# Altium schematic symbol library modules.schlib: 2 symbols
Pins are listed as number, name and electrical type; pins without a type are passive.

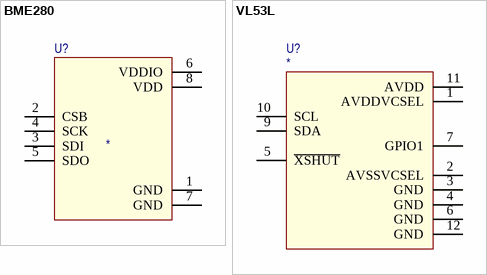
[diagram p0: symbols BME280 to VL53L]

## BME280
designator U?
DIGITAL HUMIDITY, PRESSURE AND TEMPERATURE SENSOR<br>* Digital interface IÂ²C (up to 3.4 MHz) and SPI (3 and 4 wire, up to 10 MHz)* Supply voltage VDD main supply voltage range: 1.71 V to 3.6 V*VDDIO interface voltage range: 1.2 V to 3.6 V<br> Operating range -40â€¦+85 Â°C, 0â€¦100 % rel. humidity, 300â€¦1100 hPa <br><br>  The library has been designed by<a href="https://www.facebook.com/groups/eaglecadsoftUK"> Richard Magdycz</a>; Part: BME280; Package: None; Availability: Unavailable; Value: *; Price: None
footprint PSON65P250X250X100-8N
pins: 1 GND (power), 2 CSB, 3 SDI, 4 SCK, 5 SDO, 6 VDDIO (power), 7 GND (power), 8 VDD (power)

## VL53L
designator U?
Optical Sensor / Pin-to-pin compatible with VL53L0X, VL53L1X, VL53L1CB, VL53L3CX, and VL53L4CD; MP: VL53L; MF: STMicroelectronics; Digi-Key_Part_Number: 497-17764-1-ND; Value: *; SnapEDA_Link: https://www.snapeda.com/parts/VL53L1CXV0FY/1/STMicroelectronics/view-part/2755611/?ref=snap; Digi-Key_Purchase_URL: https://www.digikey.pk/product-detail/en/stmicroelectronics/VL53L1CXV0FY-1/497-17764-1-ND/8276742?utm_source=snapeda&utm_medium=aggregator&utm_campaign=symbol; Package: LGA-12 STMicroelectronics; Part: *
footprint SENSOR_VL53L1CXV0FY/1
footprint VL53L4CXV0DH
pins: 1 AVDDVCSEL, 2 AVSSVCSEL, 3 GND, 4 GND, 5 ~{XSHUT}, 6 GND, 7 GPIO1, 9 SDA, 10 SCL, 11 AVDD, 12 GND